# EAGLE library part AT45DB041B-SC/SI/SU (library CEDTv75)
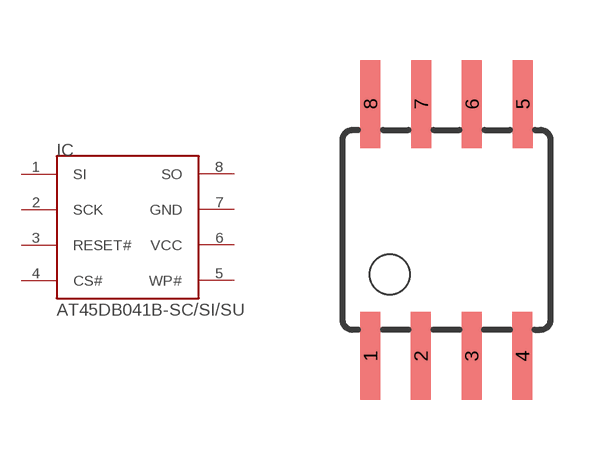
[diagram p0: symbol with the pads of SOIC8; footprint SOIC8]

Designator prefix IC

## AT45DB041B-SC/SI/SU  [SOIC8]
1  SI
2  SCK
3  RESET#
4  CS#
5  WP#
6  VCC  pwr
7  GND  pwr
8  SO

## Footprint SOIC8 (pad centres in mm)
Wide Plastic Gull Wing Small Outline Package
smd 0.5 x 2.2: 1 -1.905,-3.154; 2 -0.645,-3.154; 3 0.625,-3.154; 4 1.895,-3.154; 5 1.905,3.154; 6 0.635,3.154; 7 -0.635,3.154; 8 -1.905,3.154